# Altium schematic symbol library AS431BNTR-G1.SchLib: 1 symbol
Pins are listed as number, name and electrical type; pins without a type are passive.

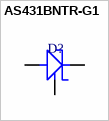
[diagram p0: symbol AS431BNTR-G1]

## AS431BNTR-G1
designator D?  (value not drawn)
pins: 1 REF, 2 C, 3 A